# EAGLE library part NLSX5014MUTAG (library NLSX5014MUTAG)
NLSX5014: 4-Bit 100Mb/s Configurable Dual-Supply Level Translator
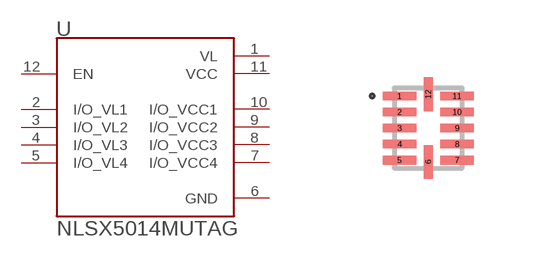
[diagram p0: symbol with the pads of QFN40P170X200X55-12N; footprint QFN40P170X200X55-12N]

Designator prefix U

## NLSX5014MUTAG (Availability: Unavailable; Description: NLSX5014: 4-Bit 100Mb/s Configurable Dual-Supply Level Translator; MF: ON Semiconductor; MP: NLSX5014MUTAG; Package: UQFN-12 ON Semiconductor; Price: None)  [QFN40P170X200X55-12N]
1  VL  pwr
2  I/O_VL1
3  I/O_VL2
4  I/O_VL3
5  I/O_VL4
6  GND  pwr
7  I/O_VCC4
8  I/O_VCC3
9  I/O_VCC2
10  I/O_VCC1
11  VCC  pwr
12  EN  in

## Footprint QFN40P170X200X55-12N (pad centres in mm)
smd 0.84 x 0.22: 1 -0.72,0.8; 2 -0.72,0.4; 3 -0.72,0; 4 -0.72,-0.4; 5 -0.72,-0.8; 7 0.72,-0.8; 8 0.72,-0.4; 9 0.72,0; 10 0.72,0.4; 11 0.72,0.8
smd 0.22 x 0.84: 6 0,-0.845; 12 0,0.845